# Altium schematic symbol library SMD_Capacitor_Series_SCH_Library_ARAF.SchLib: 1 symbol
Pins are listed as number, name and electrical type; pins without a type are passive.

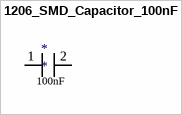
[diagram p0: symbol 1206_SMD_Capacitor_100nF]

## 1206_SMD_Capacitor_100nF
designator *
footprint 1206_SMD_Capacitor_100nF (Chip Capacitor, 2-Leads, Body 4.05x1.80mm, IPC Medium Density)
pins: 1, 2
text: 100nF